# Altium footprint library Power Supply Board V2I1.PcbLib: 15 footprints
Each footprint in its own frame and in the unit in brackets; x right, y up, seen from the top. Pads: shape width x height; smd on the part's side, far side on the other; paste and mask are expansions set on the pad; w line width, h text height; cw(c..) or ccw(c..) is an arc to the next point about the centre after c.
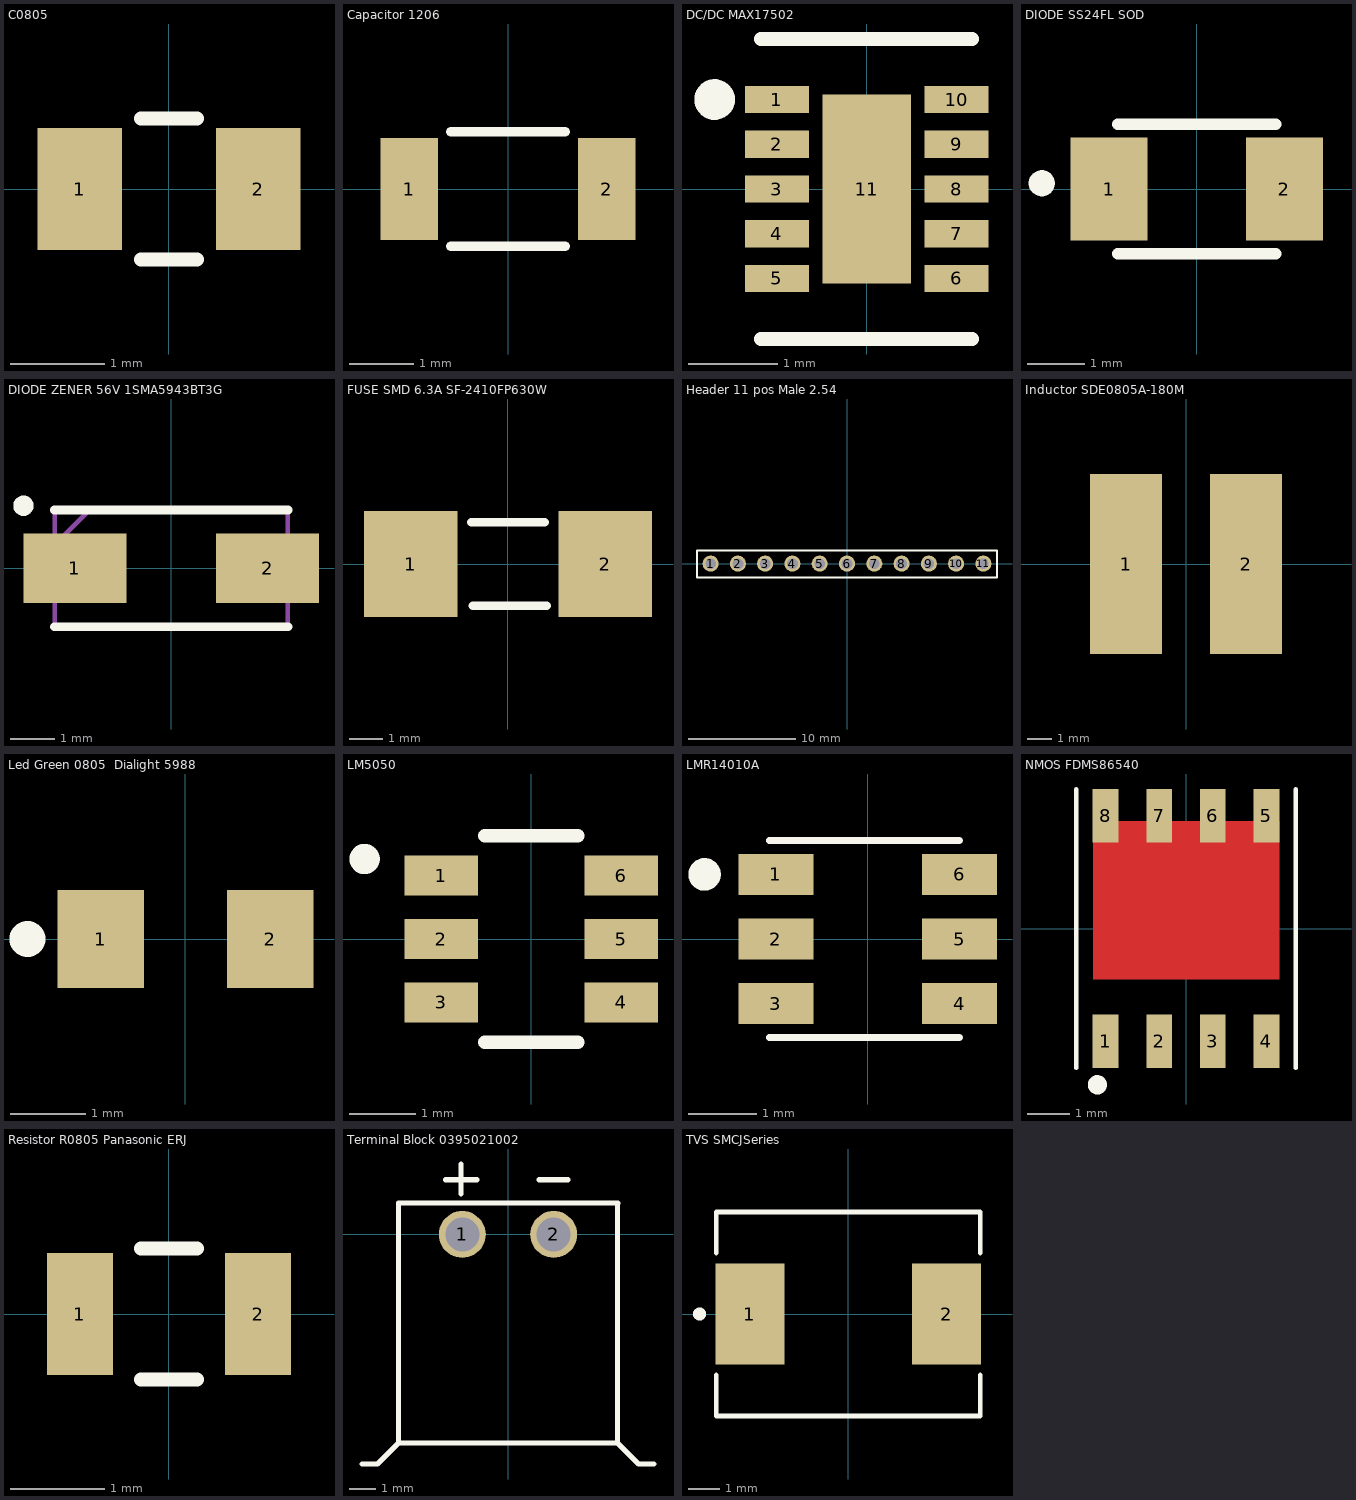
[diagram p0: the footprints below, top view; thin cyan lines are the x and y axes]

## C0805 [mm]
pads (2):
  rect 0.9x1.3 smd mask+0.07: 1(-0.95,0) 2(0.95,0)
Top Overlay:
  lines w0.15: -0.3,-0.75 0.3,-0.75 ; -0.3,0.75 0.3,0.75
3D body "C0805.step": height 0.89, standoff 0.01, extent -1.1,-0.725 1.1,0.725

## Capacitor 1206 [mm]
pads (2):
  rect 0.9x1.6 smd mask+0.05: 1(-1.55,0) 2(1.55,0)
Top Overlay:
  lines w0.15: -0.9,-0.9 0.9,-0.9 ; -0.9,0.9 0.9,0.9
3D body "Capacitor C1206.stp": height 1.81, standoff 0.01, extent -1.675,-0.9 1.725,0.9

## DC/DC MAX17502 [mil]
pads (11):
  rect 28x12 smd mask+1.97: 1(-39.5,39.37) 2(-39.5,19.68) 3(-39.5,0) 4(-39.5,-19.68) 5(-39.5,-39.37) 6(39.5,-39.37) 7(39.5,-19.68) 8(39.5,0) 9(39.5,19.68) 10(39.5,39.37)
  rect 39x83 smd paste-41 mask+0: 11(0,0)
Top Overlay:
  circle w10: c-66.93,39.37 r3.94
  lines w6: -46.5,-66 46.5,-66 ; -46.5,66 46.5,66
Top Paste:
  region: 19.5,41.5 -19.5,41.5 -19.5,-41.5 19.5,-41.5
3D body "DCDC MAX17502.step": height 32.09, standoff 0, extent -41.49,-60.98 41.5,60.99
3D body: height 10, standoff 0, extent 0,0 10,10

## DIODE SS24FL SOD [mm]
pads (2):
  rect 1.34x1.8 smd: 1(-1.525,0) 2(1.525,0)
Top Overlay:
  circle w0.254: c-2.7,0.1 r0.1
  lines w0.2: -1.375,-1.125 1.375,-1.125 ; -1.375,1.125 1.375,1.125
3D body "SS24FL.stp": height 1.08, standoff 0, extent -1.8,-0.863 1.8,0.863

## DIODE ZENER 56V 1SMA5943BT3G [mm]
pads (2):
  rect 2.3x1.55 smd: 1(-2.15,0) 2(2.15,0)
Top Overlay:
  circle w0.254: c-3.3,1.4 r0.1
  lines w0.2: -2.605,-1.302 2.605,-1.302 ; -2.605,1.302 2.605,1.302
Mechanical 13:
  lines w0.1: -2.605,0.528 -1.83,1.302 ; -2.605,-1.302 -2.605,1.302 2.605,1.302 2.605,-1.302 -2.605,-1.302
3D body "1SMA5943BT3G.stp": height 2.2, standoff 0, extent -2.605,-1.302 2.605,1.302

## FUSE SMD 6.3A SF-2410FP630W [mm]
pads (2):
  rect 2.8x3.15 smd: 1(-2.9,0) 2(2.9,0)
Top Overlay:
  lines w0.254: -1.1,1.25 1.1,1.25 ; -1.05,-1.25 1.15,-1.25
3D body "Fuse SF-2410FPxxxW.stp": height 2.16, standoff 0, extent -3.025,-1.245 3.075,1.245

## Header 11 pos Male 2.54 [mm]
pads (11):
  round 1.5 hole 1: 1(-12.7,0) 2(-10.16,0) 3(-7.62,0) 4(-5.08,0) 5(-2.54,0) 6(0,0) 7(2.54,0) 8(5.08,0) 9(7.62,0) 10(10.16,0) 11(12.7,0)
Top Overlay:
  lines w0.2: -13.97,-1.3 -13.97,1.24 13.97,1.24 13.97,-1.3 -13.97,-1.3
3D body "Header Male 11 pos 2.54mm.STEP": height 8.39, standoff -3.04, extent -13.97,-1.3 13.97,1.24

## Inductor SDE0805A-180M [mm]
pads (2):
  rect 3x7.5 smd: 1(-2.5,0) 2(2.5,0)
3D body "Inductor SDE0805A.STP": height 5.01, standoff 0.01, extent -3.826,-3.5 3.826,3.5

## Led Green 0805  Dialight 5988 [mm]
pads (2):
  rect 1.15x1.3 smd: 1(-1.125,0) 2(1.125,0)
Top Overlay:
  circle w0.254: c-2.1,0 r0.112
3D body "Led Green 0805 Daylight 5988.stp": height 0.74, standoff 0.01, extent -1.029,-0.635 1.029,0.635

## LM5050 [mm]
pads (6):
  rect 1.1x0.6 smd: 1(-1.35,0.95) 2(-1.35,0) 3(-1.35,-0.95) 4(1.35,-0.95) 5(1.35,0) 6(1.35,0.95)
Top Overlay:
  circle w0.254: c-2.5,1.2 r0.1
  lines w0.2: -0.7,-1.55 0.7,-1.55 ; -0.7,1.55 0.7,1.55
3D body "LM5050.stp": height 0.97, standoff 0, extent -1.4,-1.45 1.4,1.45

## LMR14010A [mm]
pads (6):
  rect 1.1x0.6 smd: 1(-1.35,0.95) 2(-1.35,0) 3(-1.35,-0.95) 4(1.35,-0.95) 5(1.35,0) 6(1.35,0.95)
Top Overlay:
  circle w0.254: c-2.4,0.95 r0.112
  lines w0.1: -1.45,-1.45 1.35,-1.45 ; -1.45,1.45 1.35,1.45
3D body "LMR14010ADDCR.stp": height 0.97, standoff 0, extent -1.45,-1.45 1.35,1.45

## NMOS FDMS86540 [mm]
pads (8):
  rect 0.61x1.27 smd: 1(-1.905,-2.67) 2(-0.635,-2.67) 3(0.635,-2.67) 4(1.905,-2.67) 5(1.905,2.67) 6(0.635,2.67) 7(-0.635,2.67) 8(-1.905,2.67)
Top Layer:
  rectangle: -2.205,-1.205 2.22,2.545
Top Overlay:
  circle w0.254: c-2.1,-3.7 r0.1
  lines w0.1: -2.6,-3.3 -2.6,3.3 ; 2.6,-3.3 2.6,3.3
Top Solder:
  rectangle: -2.33,-1.205 2.32,2.545
3D body: height 1.1, standoff 0, extent -2.6,-3.3 2.6,3.3

## Resistor R0805 Panasonic ERJ [mm]
pads (2):
  rect 0.7x1.3 smd: 1(-0.95,0) 2(0.95,0)
Top Overlay:
  lines w0.15: -0.3,-0.7 0.3,-0.7 ; -0.3,0.7 0.3,0.7
3D body "Resistor R0805 P100KCCT.stp": height 0.71, standoff 0, extent -1,-0.6 1,0.6

## Terminal Block 0395021002 [mm]
pads (2):
  round 1.8 hole 1.3: 1(-1.75,0) 2(1.75,0)
Top Overlay:
  lines w0.2: -5.6,-8.8 -5,-8.8 -4.2,-8 ; -2.4,2.1 -1.2,2.1 ; -1.8,1.55 -1.8,2.7 ; 1.2,2.1 2.3,2.1 ; 4.204,1.19 4.2,1.186 4.2,-8 ; 4.204,1.2 -4.196,1.2 -4.2,1.196 -4.2,-8 ; 5.6,-8.8 5,-8.8 4.2,-8 ; -4.2,-8 4.2,-8
3D body "Terminal Block 0395021002.stp": height 6.87, standoff -3.54, extent -4.204,-7.872 4.204,1.272

## TVS SMCJSeries [mil]
pads (2):
  rect 86x126 smd: 1(-123,0) 2(123,0)
Top Overlay:
  circle w10: c-186.02,0 r3.11
  lines w6: -165,-76.1 -165,-127.5 165,-127.5 165,-76.1 ; -165,76.1 -165,127.5 165,127.5 165,76.1
3D body: height 10, standoff 0, extent 0,0 10,10
3D body "SMCJSeries.step": height 105, standoff 0, extent -159.99,-122.51 160.01,122.53